# EAGLE library part 2520- (library con-3m)
3M (TM) Pak 100 4-Wall Header Source: 3M
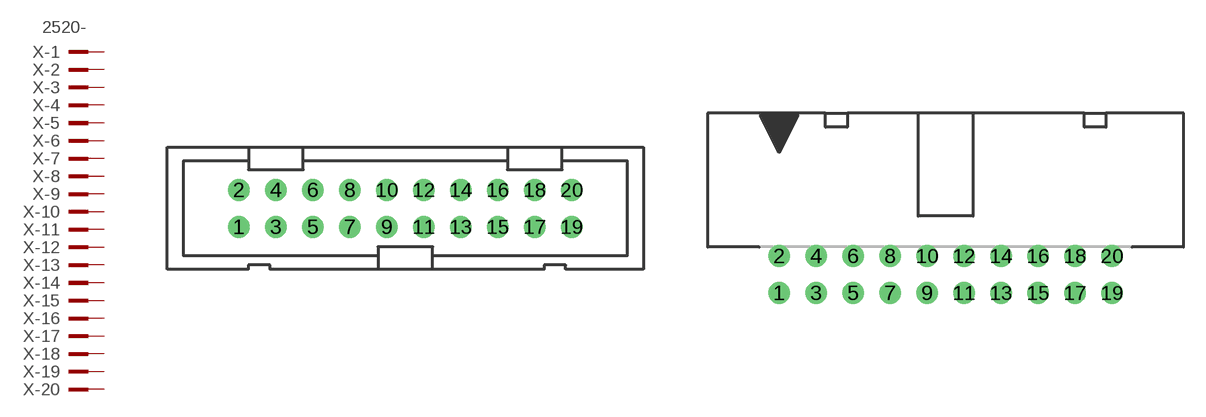
[diagram p20: symbol with the pads of PAK100/2500-20; footprints PAK100/2500-20, PAK100/2500-5-20]

Designator prefix X; gates -1=PINV -2=PIN -3=PIN -4=PIN -5=PIN -6=PIN -7=PIN -8=PIN -9=PIN -10=PIN -11=PIN -12=PIN -13=PIN -14=PIN -15=PIN -16=PIN -17=PIN -18=PIN -19=PIN -20=PIN

## 2520- (OC_FARNELL: unknown; OC_NEWARK: unknown)  [PAK100/2500-20]
1  -1:KL  pas
2  -2:KL  pas
3  -3:KL  pas
4  -4:KL  pas
5  -5:KL  pas
6  -6:KL  pas
7  -7:KL  pas
8  -8:KL  pas
9  -9:KL  pas
10  -10:KL  pas
11  -11:KL  pas
12  -12:KL  pas
13  -13:KL  pas
14  -14:KL  pas
15  -15:KL  pas
16  -16:KL  pas
17  -17:KL  pas
18  -18:KL  pas
19  -19:KL  pas
20  -20:KL  pas

## 2520-5 (MPN: D2520-5002-AR; OC_FARNELL: unknown; OC_NEWARK: 12P7058)  [PAK100/2500-5-20]
Pads as for PAK100/2500-20

## Footprint PAK100/2500-20 (pad centres in mm)
3M (TM) Pak 100 4-Wall Header Straight Source: 3M
drill 1 pad 1.422: 1 -11.43,-1.27; 2 -11.43,1.27; 3 -8.89,-1.27; 4 -8.89,1.27; 5 -6.35,-1.27; 6 -6.35,1.27; 7 -3.81,-1.27; 8 -3.81,1.27; 9 -1.27,-1.27; 10 -1.27,1.27; 11 1.27,-1.27; 12 1.27,1.27; 13 3.81,-1.27; 14 3.81,1.27; 15 6.35,-1.27; 16 6.35,1.27; 17 8.89,-1.27; 18 8.89,1.27; 19 11.43,-1.27; 20 11.43,1.27

## Footprint PAK100/2500-5-20 (pad centres in mm)
3M (TM) Pak 100 4-Wall Header Right Angle Source: 3M
drill 1 pad 1.422: 1 -11.43,-1.27; 2 -11.43,1.27; 3 -8.89,-1.27; 4 -8.89,1.27; 5 -6.35,-1.27; 6 -6.35,1.27; 7 -3.81,-1.27; 8 -3.81,1.27; 9 -1.27,-1.27; 10 -1.27,1.27; 11 1.27,-1.27; 12 1.27,1.27; 13 3.81,-1.27; 14 3.81,1.27; 15 6.35,-1.27; 16 6.35,1.27; 17 8.89,-1.27; 18 8.89,1.27; 19 11.43,-1.27; 20 11.43,1.27